# EAGLE library part PIC18F26K3 (library NullSpaceLabsCom)
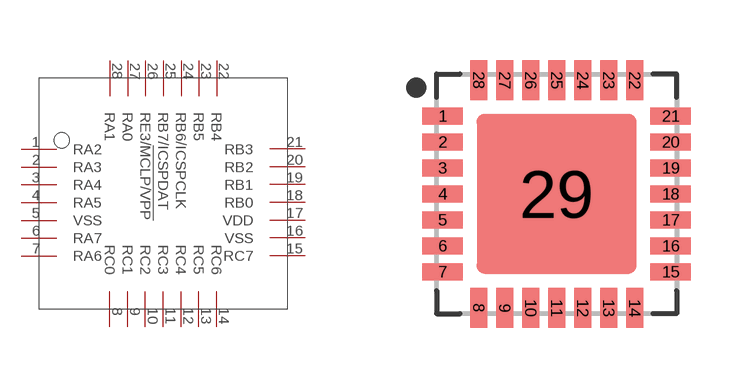
[diagram p4: symbol with the pads of QFN65P600X600X60-29T400; footprint QFN65P600X600X60-29T400]

Designator prefix -

## PIC18F26K3QFN  [QFN65P600X600X60-29T400]
1  RA2
2  RA3
3  RA4
4  RA5
5  VSS
6  RA7
7  RA6
8  RC0
9  RC1
10  RC2
11  RC3
12  RC4
13  RC5
14  RC6
15  RC7
16  VSS  pwr
17  VDD  pwr
18  RB0
19  RB1
20  RB2
21  RB3
22  RB4
23  RB5
24  RB6/ICSPCLK
25  RB7/ICSPDAT
26  RE3/!MCLP/VPP
27  RA0
28  RA1

## Footprint QFN65P600X600X60-29T400 (pad centres in mm)
28-QFN, 0.65 mm pitch, 6.00 X 6.00 X 0.60 mm body, 4.00 X 4.00 mm thermal pad 28-pin QFN package with 0.65 mm pitch with body size 6.00 X 6.00 X 0.60 mm and thermal pad size 4.00 X 4.00 mm
smd 1.011 x 0.42: 1 -2.851,1.95; 2 -2.851,1.3; 3 -2.851,0.65; 4 -2.851,0; 5 -2.851,-0.65; 6 -2.851,-1.3; 7 -2.851,-1.95; 15 2.851,-1.95; 16 2.851,-1.3; 17 2.851,-0.65; 18 2.851,0; 19 2.851,0.65; 20 2.851,1.3; 21 2.851,1.95
smd 0.42 x 1.011: 8 -1.95,-2.851; 9 -1.3,-2.851; 10 -0.65,-2.851; 11 0,-2.851; 12 0.65,-2.851; 13 1.3,-2.851; 14 1.95,-2.851; 22 1.95,2.851; 23 1.3,2.851; 24 0.65,2.851; 25 0,2.851; 26 -0.65,2.851; 27 -1.3,2.851; 28 -1.95,2.851
smd 4 x 4: 29 0,0